# Altium schematic symbol library APGF1012GBRC-07.SchLib: 1 symbol
Pins are listed as number, name and electrical type; pins without a type are passive.

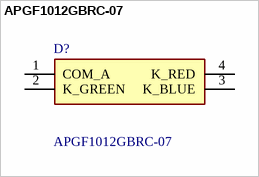
[diagram p0: symbol APGF1012GBRC-07]

## APGF1012GBRC-07
designator D?
Red, Green, Blue (RGB) 624nm Red, 525nm Green, 465nm Blue LED Indication - Discrete 1.95V Red, 2.85V Green, 2.8V Blue 4-SMD, No Lead; Manufacturer_Name: Kingbright; Geometry.Height: 0.3mm; Manufacturer_Part_Number: APGF1012GBRC-07; Mouser Part Number: 604-APGF1012GBRC-07; Mouser Price/Stock: https://www.mouser.co.uk/ProductDetail/Kingbright/APGF1012GBRC-07?qs=aP1CjGhiNiHAQm9ZxbLXkg%3D%3D; Arrow Part Number: *; Arrow Price/Stock: *; Datasheet Link: https://www.kingbrightusa.com/images/catalog/SPEC/APGF1012GBRC-07.pdf
footprint APGF1012GBRC07
pins: 1 COM_A, 2 K_GREEN, 3 K_BLUE, 4 K_RED